# EAGLE library part TFA2* (library rele)
RELAY
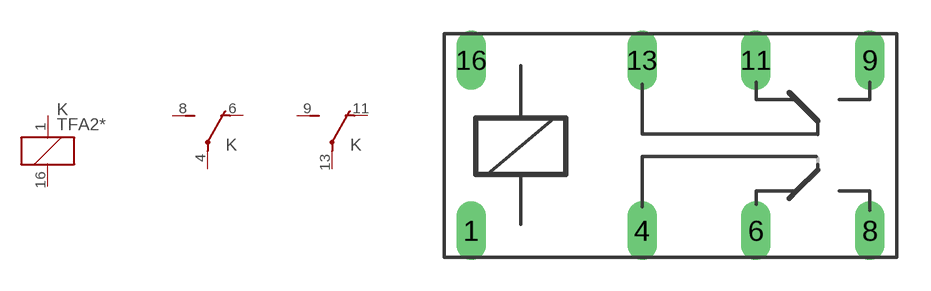
[diagram p27: symbol with the pads of TFA; footprint TFA]

Designator prefix K; gates G$1=K G$2=U G$3=U

## TFA205, TFA206, TFA212, TFA224  [TFA]
1  G$1:1  pas
4  G$2:P  pas
6  G$2:O  pas
8  G$2:S  pas
9  G$3:S  pas
11  G$3:O  pas
13  G$3:P  pas
16  G$1:2  pas

## Footprint TFA (pad centres in mm)
RELAY
drill 0.813 long: 1 -8.89,-3.81; 4 -1.27,-3.81; 6 3.81,-3.81; 8 8.89,-3.81; 9 8.89,3.81; 11 3.81,3.81; 13 -1.27,3.81; 16 -8.89,3.81